# Altium schematic symbol library CAP-SM-0805-X5R-10uF.Schlib: 1 symbol
Pins are listed as number, name and electrical type; pins without a type are passive.

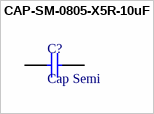
[diagram p0: symbol CAP-SM-0805-X5R-10uF]

## CAP-SM-0805-X5R-10uF
designator C?, comment Cap Semi
CAP SM 0805 X5R 10uF 10%
pins: 1, 2